# Altium schematic symbol library MCP79400T-I_MS.Schlib: 1 symbol
Pins are listed as number, name and electrical type; pins without a type are passive.

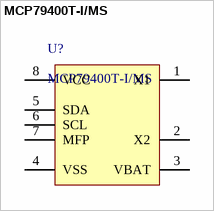
[diagram p0: symbol MCP79400T-I/MS]

## MCP79400T-I/MS
designator U?
Real Time Clock (RTC) IC Clock/Calendar 64B I²C, 2-Wire Serial 8-TSSOP, 8-MSOP (0.118", 3.00mm Width)
pins: 1 X1, 2 X2, 3 VBAT, 4 VSS, 5 SDA, 6 SCL, 7 MFP, 8 VCC